# Altium footprint library Sheet10.PCBLIB: 18 footprints (part 2 of 2)
Each footprint in its own frame and in the unit in brackets; x right, y up, seen from the top. Pads: shape width x height; smd on the part's side, far side on the other; paste and mask are expansions set on the pad; w line width, h text height; cw(c..) or ccw(c..) is an arc to the next point about the centre after c.
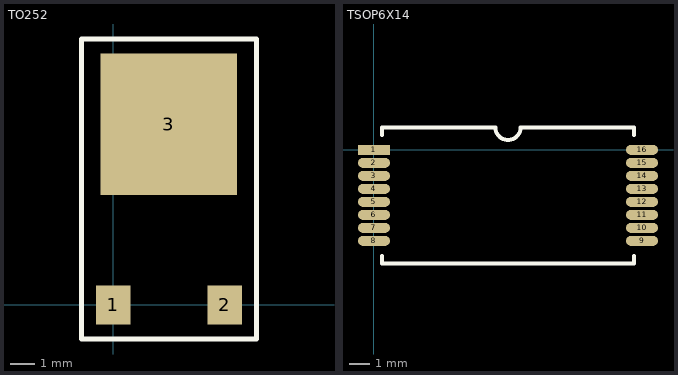
[diagram p1: the footprints below, top view; thin cyan lines are the x and y axes]

## TO252 [mm]
pads (3):
  rect 1.4x1.6 smd: 1(0,0) 2(4.57,0)
  rect 5.6x5.8 smd: 3(2.28,7.4)
TopOverlay:
  lines w0.2: -1.3,-1.4 5.87,-1.4 5.87,10.9 -1.3,10.9 -1.3,-1.4

## TSOP6X14 [mm]
pads (16):
  rect 1.6x0.5 smd: 1(0,0)
  oval 1.6x0.5 smd: 2(0,-0.65) 3(0,-1.3) 4(0,-1.95) 5(0,-2.6) 6(0,-3.25) 7(0,-3.9) 8(0,-4.55) 9(13.4,-4.55) 10(13.4,-3.9) 11(13.4,-3.25) 12(13.4,-2.6) 13(13.4,-1.95) 14(13.4,-1.3) 15(13.4,-0.65) 16(13.4,0)
TopOverlay:
  lines w0.2: 0.4,-5.3 0.4,-5.675 13,-5.675 13,-5.3 ; 0.4,0.75 0.4,1.125 6.065,1.125 ccw(c6.7,1.125) 7.335,1.125 13,1.125 13,0.75